# EAGLE library part LTM8045 (library puggleboard)
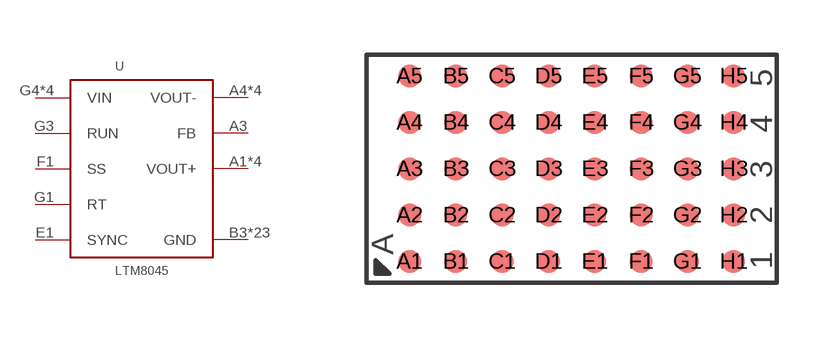
[diagram p0: symbol with the pads of 40-BBGA; footprint 40-BBGA]

Designator prefix -

## LTM8045  [40-BBGA]
A1  VOUT+  out
A2  VOUT+  out
A3  FB  in
A4  VOUT-  out
A5  VOUT-  out
B1  VOUT+  out
B2  VOUT+  out
B3  GND  pwr
B4  VOUT-  out
B5  VOUT-  out
C1  GND  pwr
C2  GND  pwr
C3  GND  pwr
C4  GND  pwr
C5  GND  pwr
D1  GND  pwr
D2  GND  pwr
D3  GND  pwr
D4  GND  pwr
D5  GND  pwr
E1  SYNC
E2  GND  pwr
E3  GND  pwr
E4  GND  pwr
E5  GND  pwr
F1  SS  out
F2  GND  pwr
F3  GND  pwr
F4  GND  pwr
F5  GND  pwr
G1  RT
G2  GND  pwr
G3  RUN  in
G4  VIN  pwr
G5  VIN  pwr
H1  GND  pwr
H2  GND  pwr
H3  GND  pwr
H4  VIN  pwr
H5  VIN  pwr

## Footprint 40-BBGA (pad centres in mm)
smd 0.635 x 0.635: A1 -4.445,-2.54; A2 -4.445,-1.27; A3 -4.445,0; A4 -4.445,1.27; A5 -4.445,2.54; B1 -3.175,-2.54; B2 -3.175,-1.27; B3 -3.175,0; B4 -3.175,1.27; B5 -3.175,2.54; C1 -1.905,-2.54; C2 -1.905,-1.27; C3 -1.905,0; C4 -1.905,1.27; C5 -1.905,2.54; D1 -0.635,-2.54; D2 -0.635,-1.27; D3 -0.635,0; D4 -0.635,1.27; D5 -0.635,2.54; E1 0.635,-2.54; E2 0.635,-1.27; E3 0.635,0; E4 0.635,1.27; E5 0.635,2.54; F1 1.905,-2.54; F2 1.905,-1.27; F3 1.905,0; F4 1.905,1.27; F5 1.905,2.54; G1 3.175,-2.54; G2 3.175,-1.27; G3 3.175,0; G4 3.175,1.27; G5 3.175,2.54; H1 4.445,-2.54; H2 4.445,-1.27; H3 4.445,0; H4 4.445,1.27; H5 4.445,2.54